# Altium footprint library mcu-chip.PcbLib: 82 footprints (part 5 of 6)
Each footprint in its own frame and in the unit in brackets; x right, y up, seen from the top. Pads: shape width x height; smd on the part's side, far side on the other; paste and mask are expansions set on the pad; w line width, h text height; cw(c..) or ccw(c..) is an arc to the next point about the centre after c.
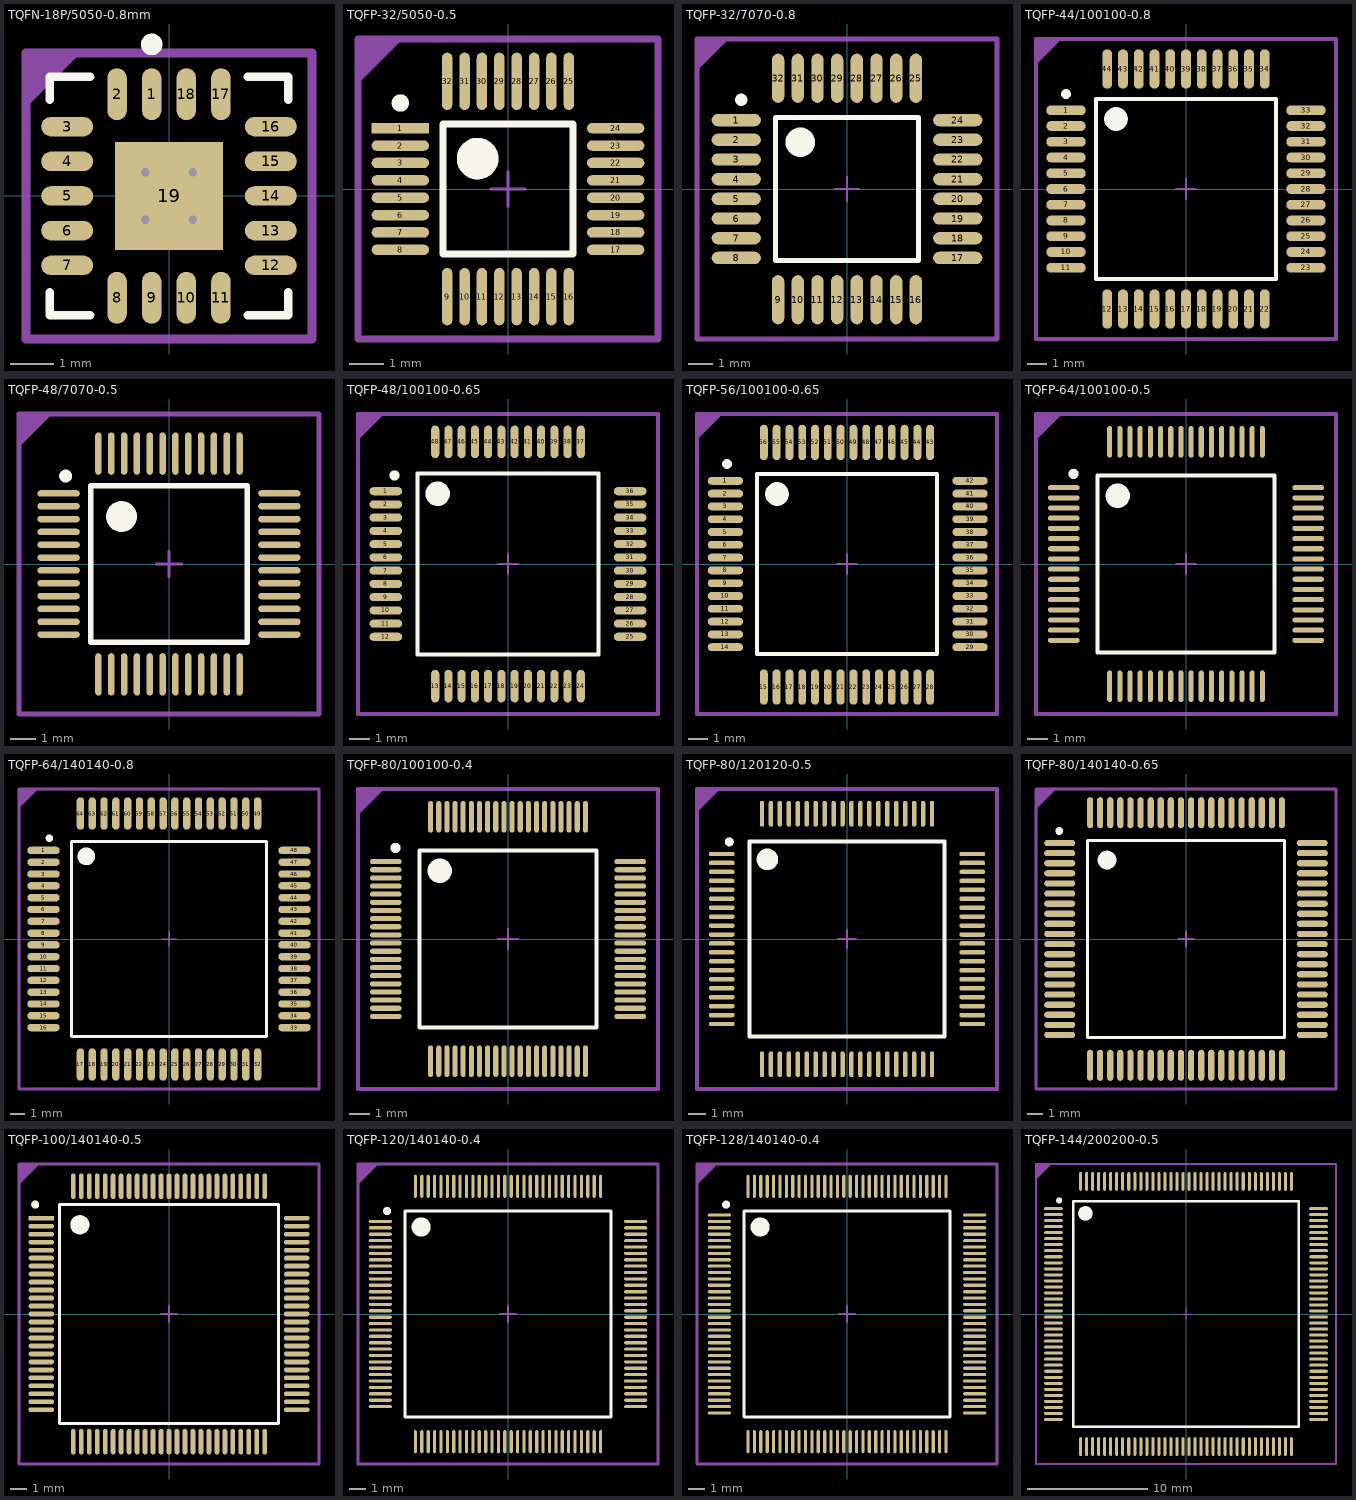
[diagram p4: the footprints below, top view; thin cyan lines are the x and y axes]

## TQFN-18P/5050-0.8mm [mm] "QFN, 18-Leads, Body 5,00x5,00mm, Pitch 0,80mm, Thermal Pad 2,50x2,50mm, IPC Medium Density"
height 0.9
pads (19):
  oval 0.45x1.2 smd: 1(-0.4,2.35) 2(-1.2,2.35) 8(-1.2,-2.35) 9(-0.4,-2.35) 10(0.4,-2.35) 11(1.2,-2.35) 17(1.2,2.35) 18(0.4,2.35)
  oval 1.2x0.45 smd: 3(-2.35,1.6) 4(-2.35,0.8) 5(-2.35,0) 6(-2.35,-0.8) 7(-2.35,-1.6) 12(2.35,-1.6) 13(2.35,-0.8) 14(2.35,0) 15(2.35,0.8) 16(2.35,1.6)
  rect 2.5x2.5 smd: 19(0,0)
via 0.55,-0.55 diameter 0.5 hole 0.2
via -0.55,-0.55 diameter 0.5 hole 0.2
via 0.55,0.55 diameter 0.5 hole 0.2
via -0.55,0.55 diameter 0.5 hole 0.2
Top Overlay:
  circle w0.25: c-0.4,3.5 r0.125
  lines w0.2: -2.75,-2.225 -2.75,-2.75 -1.825,-2.75 ; -2.75,2.225 -2.75,2.75 -1.825,2.75 ; 1.825,-2.75 2.75,-2.75 2.75,-2.225 ; 1.825,2.75 2.75,2.75 2.75,2.225
Mechanical 13:
  region: -3.302,3.302 -3.302,2.032 -2.032,3.302
  lines w0.2: -3.302,-3.302 3.302,-3.302 3.302,3.302 -3.302,3.302 -3.302,-3.302
  text ".Designator" at -2.34,-0.64 h1.4
Mechanical 15:
  lines w0.05: -3.302,-3.302 3.302,-3.302 3.302,3.302 -3.302,3.302 -3.302,-3.302
  lines w0.1: -0.5,0 0.5,0 ; 0,-0.5 0,0.5
3D body: height 0.9, standoff 0.1, extent -2.6,-2.6 2.6,2.6

## TQFP-32/5050-0.5 [mm] "TSQFP, 32-Leads, Body 5,20x5,20mm, Pitch 0,50mm, IPC Medium Density"
height 1
pads (32):
  rect 1.65x0.3 smd: 1(-3.1,1.75)
  oval 1.65x0.3 smd: 2(-3.1,1.25) 3(-3.1,0.75) 4(-3.1,0.25) 5(-3.1,-0.25) 6(-3.1,-0.75) 7(-3.1,-1.25) 8(-3.1,-1.75) 17(3.1,-1.75) 18(3.1,-1.25) 19(3.1,-0.75) 20(3.1,-0.25) 21(3.1,0.25) 22(3.1,0.75) 23(3.1,1.25) 24(3.1,1.75)
  oval 0.3x1.65 smd: 9(-1.75,-3.1) 10(-1.25,-3.1) 11(-0.75,-3.1) 12(-0.25,-3.1) 13(0.25,-3.1) 14(0.75,-3.1) 15(1.25,-3.1) 16(1.75,-3.1) 25(1.75,3.1) 26(1.25,3.1) 27(0.75,3.1) 28(0.25,3.1) 29(-0.25,3.1) 30(-0.75,3.1) 31(-1.25,3.1) 32(-1.75,3.1)
Top Overlay:
  circle w0.6: c-0.875,0.875 r0.3
  circle w0.25: c-3.1,2.475 r0.125
  lines w0.2: -1.875,-1.875 1.875,-1.875 1.875,1.875 -1.875,1.875 -1.875,-1.875
Mechanical 13:
  region: -4.318,4.318 -4.318,3.048 -3.048,4.318
  lines w0.2: -4.318,-4.318 4.318,-4.318 4.318,4.318 -4.318,4.318 -4.318,-4.318
  text ".Designator" at -2.34,-0.68 h1.4
Mechanical 15:
  lines w0.05: -4.318,-4.318 4.318,-4.318 4.318,4.318 -4.318,4.318 -4.318,-4.318
  lines w0.1: -0.5,0 0.5,0 ; 0,-0.5 0,0.5
3D body: height 1, standoff 0.1, extent -2.6,-2.6 2.6,2.6

## TQFP-32/7070-0.8 [mm] "TQFP, 32-Leads, Body 7,00x7,00mm, Pitch 0,80mm, IPC Medium Density"
height 1
pads (32):
  oval 2x0.5 smd: 1(-4.5,2.8) 2(-4.5,2) 3(-4.5,1.2) 4(-4.5,0.4) 5(-4.5,-0.4) 6(-4.5,-1.2) 7(-4.5,-2) 8(-4.5,-2.8) 17(4.5,-2.8) 18(4.5,-2) 19(4.5,-1.2) 20(4.5,-0.4) 21(4.5,0.4) 22(4.5,1.2) 23(4.5,2) 24(4.5,2.8)
  oval 0.5x2 smd: 9(-2.8,-4.5) 10(-2,-4.5) 11(-1.2,-4.5) 12(-0.4,-4.5) 13(0.4,-4.5) 14(1.2,-4.5) 15(2,-4.5) 16(2.8,-4.5) 25(2.8,4.5) 26(2,4.5) 27(1.2,4.5) 28(0.4,4.5) 29(-0.4,4.5) 30(-1.2,4.5) 31(-2,4.5) 32(-2.8,4.5)
Top Overlay:
  circle w0.6: c-1.9,1.9 r0.3
  circle w0.25: c-4.3,3.625 r0.125
  lines w0.2: -2.9,-2.9 2.9,-2.9 2.9,2.9 -2.9,2.9 -2.9,-2.9
Mechanical 13:
  region: -6.096,6.096 -6.096,4.826 -4.826,6.096
  lines w0.2: -6.096,-6.096 6.096,-6.096 6.096,6.096 -6.096,6.096 -6.096,-6.096
  text ".Designator" at -3.33,-0.85 h2
Mechanical 15:
  lines w0.05: -6.096,-6.096 6.096,-6.096 6.096,6.096 -6.096,6.096 -6.096,-6.096
  lines w0.1: -0.5,0 0.5,0 ; 0,-0.5 0,0.5
3D body: height 1, standoff 0.1, extent -3.5,-3.5 3.5,3.5

## TQFP-44/100100-0.8 [mm] "TQFP, 44-Leads, Body 10,50x10,50mm, Pitch 0,80mm, IPC Medium Density"
height 1
pads (44):
  oval 2x0.5 smd: 1(-6.096,4) 2(-6.096,3.2) 3(-6.096,2.4) 4(-6.096,1.6) 5(-6.096,0.8) 6(-6.096,0) 7(-6.096,-0.8) 8(-6.096,-1.6) 9(-6.096,-2.4) 10(-6.096,-3.2) 11(-6.096,-4) 23(6.096,-4) 24(6.096,-3.2) 25(6.096,-2.4) 26(6.096,-1.6) 27(6.096,-0.8) 28(6.096,0) 29(6.096,0.8) 30(6.096,1.6) 31(6.096,2.4) 32(6.096,3.2) 33(6.096,4)
  oval 0.5x2 smd: 12(-4,-6.096) 13(-3.2,-6.096) 14(-2.4,-6.096) 15(-1.6,-6.096) 16(-0.8,-6.096) 17(0,-6.096) 18(0.8,-6.096) 19(1.6,-6.096) 20(2.4,-6.096) 21(3.2,-6.096) 22(4,-6.096) 34(4,6.096) 35(3.2,6.096) 36(2.4,6.096) 37(1.6,6.096) 38(0.8,6.096) 39(0,6.096) 40(-0.8,6.096) 41(-1.6,6.096) 42(-2.4,6.096) 43(-3.2,6.096) 44(-4,6.096)
Top Overlay:
  circle w0.6: c-3.556,3.556 r0.3
  lines w0.2: -4.572,-4.572 -4.572,4.572 4.572,4.572 4.572,-4.572 -4.572,-4.572
  lines w0.25: -5.971,4.826 cw(c-6.096,4.826) -5.971,4.832
Mechanical 13:
  region: -7.62,7.62 -7.62,6.35 -6.35,7.62
  lines w0.2: -7.62,-7.62 -7.62,7.62 7.62,7.62 7.62,-7.62 -7.62,-7.62
  text ".Designator" at -3.37,-0.9 h2
Mechanical 15:
  lines w0.05: -7.62,-7.62 -7.62,7.62 7.62,7.62 7.62,-7.62 -7.62,-7.62
  lines w0.1: -0.5,0 0.5,0 ; 0,-0.5 0,0.5
3D body: height 1, standoff 0.1, extent -5.08,-5.08 5.08,5.08

## TQFP-48/7070-0.5 [mm] "TSQFP, 48-Leads, Body 7,00x7,00mm, Pitch 0,50mm, IPC High Density"
height 1
pads (48):
  oval 1.65x0.25 smd: 1(-4.3,2.75) 2(-4.3,2.25) 3(-4.3,1.75) 4(-4.3,1.25) 5(-4.3,0.75) 6(-4.3,0.25) 7(-4.3,-0.25) 8(-4.3,-0.75) 9(-4.3,-1.25) 10(-4.3,-1.75) 11(-4.3,-2.25) 12(-4.3,-2.75) 25(4.3,-2.75) 26(4.3,-2.25) 27(4.3,-1.75) 28(4.3,-1.25) 29(4.3,-0.75) 30(4.3,-0.25) 31(4.3,0.25) 32(4.3,0.75) 33(4.3,1.25) 34(4.3,1.75) 35(4.3,2.25) 36(4.3,2.75)
  oval 0.25x1.65 smd: 13(-2.75,-4.3) 14(-2.25,-4.3) 15(-1.75,-4.3) 16(-1.25,-4.3) 17(-0.75,-4.3) 18(-0.25,-4.3) 19(0.25,-4.3) 20(0.75,-4.3) 21(1.25,-4.3) 22(1.75,-4.3) 23(2.25,-4.3) 24(2.75,-4.3) 37(2.75,4.3) 38(2.25,4.3) 39(1.75,4.3) 40(1.25,4.3) 41(0.75,4.3) 42(0.25,4.3) 43(-0.25,4.3) 44(-0.75,4.3) 45(-1.25,4.3) 46(-1.75,4.3) 47(-2.25,4.3) 48(-2.75,4.3)
Top Overlay:
  circle w0.6: c-1.85,1.85 r0.3
  circle w0.25: c-4.025,3.425 r0.125
  lines w0.2: -3.048,-3.048 3.048,-3.048 3.048,3.048 -3.048,3.048 -3.048,-3.048
Mechanical 13:
  region: -5.842,5.842 -5.842,4.572 -4.572,5.842
  lines w0.2: -5.842,-5.842 5.842,-5.842 5.842,5.842 -5.842,5.842 -5.842,-5.842
  text ".Designator" at -3.34,-0.93 h2
Mechanical 15:
  lines w0.05: -5.842,-5.842 5.842,-5.842 5.842,5.842 -5.842,5.842 -5.842,-5.842
  lines w0.1: -0.5,0 0.5,0 ; 0,-0.5 0,0.5
3D body: height 1, standoff 0.1, extent -3.5,-3.5 3.5,3.5

## TQFP-48/100100-0.65 [mm] "TQFP, 48-Leads, Body 10,00x10,00mm, Pitch 0,65mm, IPC High Density"
height 1
pads (48):
  oval 1.6x0.4 smd: 1(-6,3.575) 2(-6,2.925) 3(-6,2.275) 4(-6,1.625) 5(-6,0.975) 6(-6,0.325) 7(-6,-0.325) 8(-6,-0.975) 9(-6,-1.625) 10(-6,-2.275) 11(-6,-2.925) 12(-6,-3.575) 25(6,-3.575) 26(6,-2.925) 27(6,-2.275) 28(6,-1.625) 29(6,-0.975) 30(6,-0.325) 31(6,0.325) 32(6,0.975) 33(6,1.625) 34(6,2.275) 35(6,2.925) 36(6,3.575)
  oval 0.4x1.6 smd: 13(-3.575,-6) 14(-2.925,-6) 15(-2.275,-6) 16(-1.625,-6) 17(-0.975,-6) 18(-0.325,-6) 19(0.325,-6) 20(0.975,-6) 21(1.625,-6) 22(2.275,-6) 23(2.925,-6) 24(3.575,-6) 37(3.575,6) 38(2.925,6) 39(2.275,6) 40(1.625,6) 41(0.975,6) 42(0.325,6) 43(-0.325,6) 44(-0.975,6) 45(-1.625,6) 46(-2.275,6) 47(-2.925,6) 48(-3.575,6)
Top Overlay:
  circle w0.25: c-5.575,4.35 r0.125
  circle w0.6: c-3.45,3.45 r0.3
  lines w0.2: -4.45,-4.45 -4.45,4.45 4.45,4.45 4.45,-4.45 -4.45,-4.45
Mechanical 13:
  region: -7.366,7.366 -7.366,6.096 -6.096,7.366
  lines w0.2: -7.366,-7.366 -7.366,7.366 7.366,7.366 7.366,-7.366 -7.366,-7.366
  text ".Designator" at -3.37,-0.85 h2
Mechanical 15:
  lines w0.05: -7.366,-7.366 -7.366,7.366 7.366,7.366 7.366,-7.366 -7.366,-7.366
  lines w0.1: -0.5,0 0.5,0 ; 0,-0.5 0,0.5
3D body: height 1, standoff 0.1, extent -5,-5 5,5

## TQFP-56/100100-0.65 [mm] "TQFP, 56-Leads, Body 10,50x10,50mm, Pitch 0,65mm, IPC Medium Density"
height 1
pads (56):
  oval 1.8x0.4 smd: 1(-6.175,4.225) 2(-6.175,3.575) 3(-6.175,2.925) 4(-6.175,2.275) 5(-6.175,1.625) 6(-6.175,0.975) 7(-6.175,0.325) 8(-6.175,-0.325) 9(-6.175,-0.975) 10(-6.175,-1.625) 11(-6.175,-2.275) 12(-6.175,-2.925) 13(-6.175,-3.575) 14(-6.175,-4.225) 29(6.25,-4.225) 30(6.25,-3.575) 31(6.25,-2.925) 32(6.25,-2.275) 33(6.25,-1.625) 34(6.25,-0.975) 35(6.25,-0.325) 36(6.25,0.325) 37(6.25,0.975) 38(6.25,1.625) 39(6.25,2.275) 40(6.25,2.925) 41(6.25,3.575) 42(6.25,4.225)
  oval 0.4x1.8 smd: 15(-4.225,-6.25) 16(-3.575,-6.25) 17(-2.925,-6.25) 18(-2.275,-6.25) 19(-1.625,-6.25) 20(-0.975,-6.25) 21(-0.325,-6.25) 22(0.325,-6.25) 23(0.975,-6.25) 24(1.625,-6.25) 25(2.275,-6.25) 26(2.925,-6.25) 27(3.575,-6.25) 28(4.225,-6.25) 43(4.225,6.175) 44(3.575,6.175) 45(2.925,6.175) 46(2.275,6.175) 47(1.625,6.175) 48(0.975,6.175) 49(0.325,6.175) 50(-0.325,6.175) 51(-0.975,6.175) 52(-1.625,6.175) 53(-2.275,6.175) 54(-2.925,6.175) 55(-3.575,6.175) 56(-4.225,6.175)
Top Overlay:
  circle w0.25: c-6.096,5.08 r0.125
  circle w0.6: c-3.556,3.556 r0.3
  lines w0.2: -4.572,-4.572 -4.572,4.572 4.572,4.572 4.572,-4.572 -4.572,-4.572
Mechanical 13:
  region: -7.62,7.62 -7.62,6.35 -6.35,7.62
  lines w0.2: -7.62,-7.62 -7.62,7.62 7.62,7.62 7.62,-7.62 -7.62,-7.62
  text ".Designator" at -3.38,-0.98 h2
Mechanical 15:
  lines w0.05: -7.62,-7.62 -7.62,7.62 7.62,7.62 7.62,-7.62 -7.62,-7.62
  lines w0.1: -0.5,0 0.5,0 ; 0,-0.5 0,0.5
3D body: height 1, standoff 0.1, extent -5.25,-5.25 5.25,5.25

## TQFP-64/100100-0.5 [mm] "TSQFP, 64-Leads, Body 10,00x10,00mm, Pitch 0,50mm, IPC High Density"
height 1
pads (64):
  oval 1.55x0.25 smd: 1(-6,3.75) 2(-6,3.25) 3(-6,2.75) 4(-6,2.25) 5(-6,1.75) 6(-6,1.25) 7(-6,0.75) 8(-6,0.25) 9(-6,-0.25) 10(-6,-0.75) 11(-6,-1.25) 12(-6,-1.75) 13(-6,-2.25) 14(-6,-2.75) 15(-6,-3.25) 16(-6,-3.75) 33(6,-3.75) 34(6,-3.25) 35(6,-2.75) 36(6,-2.25) 37(6,-1.75) 38(6,-1.25) 39(6,-0.75) 40(6,-0.25) 41(6,0.25) 42(6,0.75) 43(6,1.25) 44(6,1.75) 45(6,2.25) 46(6,2.75) 47(6,3.25) 48(6,3.75)
  oval 0.25x1.55 smd: 17(-3.75,-6) 18(-3.25,-6) 19(-2.75,-6) 20(-2.25,-6) 21(-1.75,-6) 22(-1.25,-6) 23(-0.75,-6) 24(-0.25,-6) 25(0.25,-6) 26(0.75,-6) 27(1.25,-6) 28(1.75,-6) 29(2.25,-6) 30(2.75,-6) 31(3.25,-6) 32(3.75,-6) 49(3.75,6) 50(3.25,6) 51(2.75,6) 52(2.25,6) 53(1.75,6) 54(1.25,6) 55(0.75,6) 56(0.25,6) 57(-0.25,6) 58(-0.75,6) 59(-1.25,6) 60(-1.75,6) 61(-2.25,6) 62(-2.75,6) 63(-3.25,6) 64(-3.75,6)
Top Overlay:
  circle w0.6: c-3.35,3.35 r0.3
  circle w0.25: c-5.525,4.425 r0.125
  lines w0.2: -4.35,-4.35 4.35,-4.35 4.35,4.35 -4.35,4.35 -4.35,-4.35
Mechanical 13:
  region: -7.366,7.366 -7.366,6.096 -6.096,7.366
  lines w0.2: -7.366,-7.366 7.366,-7.366 7.366,7.366 -7.366,7.366 -7.366,-7.366
  text ".Designator" at -3.33,-0.98 h2
Mechanical 15:
  lines w0.05: -7.366,-7.366 7.366,-7.366 7.366,7.366 -7.366,7.366 -7.366,-7.366
  lines w0.1: -0.5,0 0.5,0 ; 0,-0.5 0,0.5
3D body: height 1, standoff 0.1, extent -5,-5 5,5

## TQFP-64/140140-0.8 [mm] "TQFP, 64-Leads, Body 14,05x14,05mm, Pitch 0,80mm, IPC Medium Density"
height 1
pads (64):
  oval 2.2x0.5 smd: 1(-8.5,6) 2(-8.5,5.2) 3(-8.5,4.4) 4(-8.5,3.6) 5(-8.5,2.8) 6(-8.5,2) 7(-8.5,1.2) 8(-8.5,0.4) 9(-8.5,-0.4) 10(-8.5,-1.2) 11(-8.5,-2) 12(-8.5,-2.8) 13(-8.5,-3.6) 14(-8.5,-4.4) 15(-8.5,-5.2) 16(-8.5,-6) 33(8.5,-6) 34(8.5,-5.2) 35(8.5,-4.4) 36(8.5,-3.6) 37(8.5,-2.8) 38(8.5,-2) 39(8.5,-1.2) 40(8.5,-0.4) 41(8.5,0.4) 42(8.5,1.2) 43(8.5,2) 44(8.5,2.8) 45(8.5,3.6) 46(8.5,4.4) 47(8.5,5.2) 48(8.5,6)
  oval 0.5x2.2 smd: 17(-6,-8.5) 18(-5.2,-8.5) 19(-4.4,-8.5) 20(-3.6,-8.5) 21(-2.8,-8.5) 22(-2,-8.5) 23(-1.2,-8.5) 24(-0.4,-8.5) 25(0.4,-8.5) 26(1.2,-8.5) 27(2,-8.5) 28(2.8,-8.5) 29(3.6,-8.5) 30(4.4,-8.5) 31(5.2,-8.5) 32(6,-8.5) 49(6,8.5) 50(5.2,8.5) 51(4.4,8.5) 52(3.6,8.5) 53(2.8,8.5) 54(2,8.5) 55(1.2,8.5) 56(0.4,8.5) 57(-0.4,8.5) 58(-1.2,8.5) 59(-2,8.5) 60(-2.8,8.5) 61(-3.6,8.5) 62(-4.4,8.5) 63(-5.2,8.5) 64(-6,8.5)
Top Overlay:
  circle w0.6: c-5.6,5.6 r0.3
  circle w0.25: c-8.1,6.825 r0.125
  lines w0.2: -6.6,-6.6 6.6,-6.6 6.6,6.6 -6.6,6.6 -6.6,-6.6
Mechanical 13:
  region: -10.16,10.16 -10.16,8.89 -8.89,10.16
  lines w0.2: -10.16,-10.16 10.16,-10.16 10.16,10.16 -10.16,10.16 -10.16,-10.16
  text ".Designator" at -3.33,-0.96 h2
Mechanical 15:
  lines w0.05: -10.16,-10.16 10.16,-10.16 10.16,10.16 -10.16,10.16 -10.16,-10.16
  lines w0.1: -0.5,0 0.5,0 ; 0,-0.5 0,0.5
3D body: height 1, standoff 0.1, extent -7.05,-7.05 7.05,7.05

## TQFP-80/100100-0.4 [mm] "TSQFP, 80-Leads, Body 10,00x10,00mm, Pitch 0,40mm, IPC High Density"
height 1
pads (80):
  oval 1.55x0.25 smd: 1(-6,3.8) 2(-6,3.4) 3(-6,3) 4(-6,2.6) 5(-6,2.2) 6(-6,1.8) 7(-6,1.4) 8(-6,1) 9(-6,0.6) 10(-6,0.2) 11(-6,-0.2) 12(-6,-0.6) 13(-6,-1) 14(-6,-1.4) 15(-6,-1.8) 16(-6,-2.2) 17(-6,-2.6) 18(-6,-3) 19(-6,-3.4) 20(-6,-3.8) 41(6,-3.8) 42(6,-3.4) 43(6,-3) 44(6,-2.6) 45(6,-2.2) 46(6,-1.8) 47(6,-1.4) 48(6,-1) 49(6,-0.6) 50(6,-0.2) 51(6,0.2) 52(6,0.6) 53(6,1) 54(6,1.4) 55(6,1.8) 56(6,2.2) 57(6,2.6) 58(6,3) 59(6,3.4) 60(6,3.8)
  oval 0.25x1.55 smd: 21(-3.8,-6) 22(-3.4,-6) 23(-3,-6) 24(-2.6,-6) 25(-2.2,-6) 26(-1.8,-6) 27(-1.4,-6) 28(-1,-6) 29(-0.6,-6) 30(-0.2,-6) 31(0.2,-6) 32(0.6,-6) 33(1,-6) 34(1.4,-6) 35(1.8,-6) 36(2.2,-6) 37(2.6,-6) 38(3,-6) 39(3.4,-6) 40(3.8,-6) 61(3.8,6) 62(3.4,6) 63(3,6) 64(2.6,6) 65(2.2,6) 66(1.8,6) 67(1.4,6) 68(1,6) 69(0.6,6) 70(0.2,6) 71(-0.2,6) 72(-0.6,6) 73(-1,6) 74(-1.4,6) 75(-1.8,6) 76(-2.2,6) 77(-2.6,6) 78(-3,6) 79(-3.4,6) 80(-3.8,6)
Top Overlay:
  circle w0.25: c-5.525,4.475 r0.125
  circle w0.6: c-3.35,3.35 r0.3
  lines w0.2: -4.35,-4.35 -4.35,4.35 4.35,4.35 4.35,-4.35 -4.35,-4.35
Mechanical 13:
  region: -7.366,7.366 -7.366,6.096 -6.096,7.366
  lines w0.2: -7.366,-7.366 -7.366,7.366 7.366,7.366 7.366,-7.366 -7.366,-7.366
  text ".Designator" at -3.37,-1.02 h2
Mechanical 15:
  lines w0.05: -7.366,-7.366 -7.366,7.366 7.366,7.366 7.366,-7.366 -7.366,-7.366
  lines w0.1: -0.5,0 0.5,0 ; 0,-0.5 0,0.5
3D body: height 1, standoff 0.1, extent -5,-5 5,5

## TQFP-80/120120-0.5 [mm] "TSQFP, 80-Leads, Body 12,00x12,00mm, Pitch 0,50mm, IPC High Density"
height 1
pads (80):
  oval 1.45x0.25 smd: 1(-7,4.75) 2(-7,4.25) 3(-7,3.75) 4(-7,3.25) 5(-7,2.75) 6(-7,2.25) 7(-7,1.75) 8(-7,1.25) 9(-7,0.75) 10(-7,0.25) 11(-7,-0.25) 12(-7,-0.75) 13(-7,-1.25) 14(-7,-1.75) 15(-7,-2.25) 16(-7,-2.75) 17(-7,-3.25) 18(-7,-3.75) 19(-7,-4.25) 20(-7,-4.75) 41(7,-4.75) 42(7,-4.25) 43(7,-3.75) 44(7,-3.25) 45(7,-2.75) 46(7,-2.25) 47(7,-1.75) 48(7,-1.25) 49(7,-0.75) 50(7,-0.25) 51(7,0.25) 52(7,0.75) 53(7,1.25) 54(7,1.75) 55(7,2.25) 56(7,2.75) 57(7,3.25) 58(7,3.75) 59(7,4.25) 60(7,4.75)
  oval 0.25x1.45 smd: 21(-4.75,-7) 22(-4.25,-7) 23(-3.75,-7) 24(-3.25,-7) 25(-2.75,-7) 26(-2.25,-7) 27(-1.75,-7) 28(-1.25,-7) 29(-0.75,-7) 30(-0.25,-7) 31(0.25,-7) 32(0.75,-7) 33(1.25,-7) 34(1.75,-7) 35(2.25,-7) 36(2.75,-7) 37(3.25,-7) 38(3.75,-7) 39(4.25,-7) 40(4.75,-7) 61(4.75,7) 62(4.25,7) 63(3.75,7) 64(3.25,7) 65(2.75,7) 66(2.25,7) 67(1.75,7) 68(1.25,7) 69(0.75,7) 70(0.25,7) 71(-0.25,7) 72(-0.75,7) 73(-1.25,7) 74(-1.75,7) 75(-2.25,7) 76(-2.75,7) 77(-3.25,7) 78(-3.75,7) 79(-4.25,7) 80(-4.75,7)
Top Overlay:
  circle w0.6: c-4.45,4.45 r0.3
  circle w0.25: c-6.575,5.425 r0.125
  lines w0.2: -5.45,-5.45 5.45,-5.45 5.45,5.45 -5.45,5.45 -5.45,-5.45
Mechanical 13:
  region: -8.382,8.382 -8.382,7.112 -7.112,8.382
  lines w0.2: -8.382,-8.382 8.382,-8.382 8.382,8.382 -8.382,8.382 -8.382,-8.382
  text ".Designator" at -3.33,-0.98 h2
Mechanical 15:
  lines w0.05: -8.382,-8.382 8.382,-8.382 8.382,8.382 -8.382,8.382 -8.382,-8.382
  lines w0.1: -0.5,0 0.5,0 ; 0,-0.5 0,0.5
3D body: height 1, standoff 0.1, extent -6,-6 6,6

## TQFP-80/140140-0.65 [mm] "TQFP, 80-Leads, Body 14,05x14,05mm, Pitch 0,65mm, IPC Medium Density"
height 1
pads (80):
  oval 2x0.4 smd: 1(-8.125,6.175) 2(-8.125,5.525) 3(-8.125,4.875) 4(-8.125,4.225) 5(-8.125,3.575) 6(-8.125,2.925) 7(-8.125,2.275) 8(-8.125,1.625) 9(-8.125,0.975) 10(-8.125,0.325) 11(-8.125,-0.325) 12(-8.125,-0.975) 13(-8.125,-1.625) 14(-8.125,-2.275) 15(-8.125,-2.925) 16(-8.125,-3.575) 17(-8.125,-4.225) 18(-8.125,-4.875) 19(-8.125,-5.525) 20(-8.125,-6.175) 41(8.125,-6.175) 42(8.125,-5.525) 43(8.125,-4.875) 44(8.125,-4.225) 45(8.125,-3.575) 46(8.125,-2.925) 47(8.125,-2.275) 48(8.125,-1.625) 49(8.125,-0.975) 50(8.125,-0.325) 51(8.125,0.325) 52(8.125,0.975) 53(8.125,1.625) 54(8.125,2.275) 55(8.125,2.925) 56(8.125,3.575) 57(8.125,4.225) 58(8.125,4.875) 59(8.125,5.525) 60(8.125,6.175)
  oval 0.4x2 smd: 21(-6.175,-8.125) 22(-5.525,-8.125) 23(-4.875,-8.125) 24(-4.225,-8.125) 25(-3.575,-8.125) 26(-2.925,-8.125) 27(-2.275,-8.125) 28(-1.625,-8.125) 29(-0.975,-8.125) 30(-0.325,-8.125) 31(0.325,-8.125) 32(0.975,-8.125) 33(1.625,-8.125) 34(2.275,-8.125) 35(2.925,-8.125) 36(3.575,-8.125) 37(4.225,-8.125) 38(4.875,-8.125) 39(5.525,-8.125) 40(6.175,-8.125) 61(6.175,8.125) 62(5.525,8.125) 63(4.875,8.125) 64(4.225,8.125) 65(3.575,8.125) 66(2.925,8.125) 67(2.275,8.125) 68(1.625,8.125) 69(0.975,8.125) 70(0.325,8.125) 71(-0.325,8.125) 72(-0.975,8.125) 73(-1.625,8.125) 74(-2.275,8.125) 75(-2.925,8.125) 76(-3.575,8.125) 77(-4.225,8.125) 78(-4.875,8.125) 79(-5.525,8.125) 80(-6.175,8.125)
Top Overlay:
  circle w0.6: c-5.08,5.08 r0.3
  circle w0.25: c-8.15,6.95 r0.125
  lines w0.2: -6.35,-6.35 6.35,-6.35 6.35,6.35 -6.35,6.35 -6.35,-6.35
Mechanical 13:
  region: -9.652,9.652 -9.652,8.382 -8.382,9.652
  lines w0.2: -9.652,-9.652 9.652,-9.652 9.652,9.652 -9.652,9.652 -9.652,-9.652
  text ".Designator" at -3.35,-0.9 h2
Mechanical 15:
  lines w0.05: -9.652,-9.652 9.652,-9.652 9.652,9.652 -9.652,9.652 -9.652,-9.652
  lines w0.1: -0.5,0 0.5,0 ; 0,-0.5 0,0.5
3D body: height 1, standoff 0.1, extent -7.05,-7.05 7.05,7.05

## TQFP-100/140140-0.5 [mm] "TSQFP, 100-Leads, Body 14,00x14,00mm, Pitch 0,50mm, IPC High Density"
height 1
pads (100):
  rect 1.6x0.3 smd: 1(-8,6)
  oval 1.6x0.3 smd: 2(-8,5.5) 3(-8,5) 4(-8,4.5) 5(-8,4) 6(-8,3.5) 7(-8,3) 8(-8,2.5) 9(-8,2) 10(-8,1.5) 11(-8,1) 12(-8,0.5) 13(-8,0) 14(-8,-0.5) 15(-8,-1) 16(-8,-1.5) 17(-8,-2) 18(-8,-2.5) 19(-8,-3) 20(-8,-3.5) 21(-8,-4) 22(-8,-4.5) 23(-8,-5) 24(-8,-5.5) 25(-8,-6) 51(8,-6) 52(8,-5.5) 53(8,-5) 54(8,-4.5) 55(8,-4) 56(8,-3.5) 57(8,-3) 58(8,-2.5) 59(8,-2) 60(8,-1.5) 61(8,-1) 62(8,-0.5) 63(8,0) 64(8,0.5) 65(8,1) 66(8,1.5) 67(8,2) 68(8,2.5) 69(8,3) 70(8,3.5) 71(8,4) 72(8,4.5) 73(8,5) 74(8,5.5) 75(8,6)
  oval 0.3x1.6 smd: 26(-6,-8) 27(-5.5,-8) 28(-5,-8) 29(-4.5,-8) 30(-4,-8) 31(-3.5,-8) 32(-3,-8) 33(-2.5,-8) 34(-2,-8) 35(-1.5,-8) 36(-1,-8) 37(-0.5,-8) 38(0,-8) 39(0.5,-8) 40(1,-8) 41(1.5,-8) 42(2,-8) 43(2.5,-8) 44(3,-8) 45(3.5,-8) 46(4,-8) 47(4.5,-8) 48(5,-8) 49(5.5,-8) 50(6,-8) 76(6,8) 77(5.5,8) 78(5,8) 79(4.5,8) 80(4,8) 81(3.5,8) 82(3,8) 83(2.5,8) 84(2,8) 85(1.5,8) 86(1,8) 87(0.5,8) 88(0,8) 89(-0.5,8) 90(-1,8) 91(-1.5,8) 92(-2,8) 93(-2.5,8) 94(-3,8) 95(-3.5,8) 96(-4,8) 97(-4.5,8) 98(-5,8) 99(-5.5,8) 100(-6,8)
Top Overlay:
  circle w0.25: c-8.382,6.858 r0.125
  circle w0.6: c-5.588,5.588 r0.3
  lines w0.2: -6.858,-6.858 -6.858,6.858 6.858,6.858 6.858,-6.858 -6.858,-6.858
Mechanical 13:
  region: -9.398,9.398 -9.398,8.128 -8.128,9.398
  lines w0.2: -9.398,-9.398 -9.398,9.398 9.398,9.398 9.398,-9.398 -9.398,-9.398
  text ".Designator" at -3.31,-0.97 h2
Mechanical 15:
  lines w0.05: -9.398,-9.398 9.398,-9.398 9.398,9.398 -9.398,9.398 -9.398,-9.398
  lines w0.1: -0.5,0 0.5,0 ; 0,-0.5 0,0.5
3D body: height 1, standoff 0.1, extent -7,-7 7,7

## TQFP-120/140140-0.4 [mm] "TSQFP, 120-Leads, Body 14,00x14,00mm, Pitch 0,40mm, IPC High Density"
height 1
pads (120):
  oval 1.45x0.2 smd: 1(-8,5.8) 2(-8,5.4) 3(-8,5) 4(-8,4.6) 5(-8,4.2) 6(-8,3.8) 7(-8,3.4) 8(-8,3) 9(-8,2.6) 10(-8,2.2) 11(-8,1.8) 12(-8,1.4) 13(-8,1) 14(-8,0.6) 15(-8,0.2) 16(-8,-0.2) 17(-8,-0.6) 18(-8,-1) 19(-8,-1.4) 20(-8,-1.8) 21(-8,-2.2) 22(-8,-2.6) 23(-8,-3) 24(-8,-3.4) 25(-8,-3.8) 26(-8,-4.2) 27(-8,-4.6) 28(-8,-5) 29(-8,-5.4) 30(-8,-5.8) 61(8,-5.8) 62(8,-5.4) 63(8,-5) 64(8,-4.6) 65(8,-4.2) 66(8,-3.8) 67(8,-3.4) 68(8,-3) 69(8,-2.6) 70(8,-2.2) 71(8,-1.8) 72(8,-1.4) 73(8,-1) 74(8,-0.6) 75(8,-0.2) 76(8,0.2) 77(8,0.6) 78(8,1) 79(8,1.4) 80(8,1.8) 81(8,2.2) 82(8,2.6) 83(8,3) 84(8,3.4) 85(8,3.8) 86(8,4.2) 87(8,4.6) 88(8,5) 89(8,5.4) 90(8,5.8)
  oval 0.2x1.45 smd: 31(-5.8,-8) 32(-5.4,-8) 33(-5,-8) 34(-4.6,-8) 35(-4.2,-8) 36(-3.8,-8) 37(-3.4,-8) 38(-3,-8) 39(-2.6,-8) 40(-2.2,-8) 41(-1.8,-8) 42(-1.4,-8) 43(-1,-8) 44(-0.6,-8) 45(-0.2,-8) 46(0.2,-8) 47(0.6,-8) 48(1,-8) 49(1.4,-8) 50(1.8,-8) 51(2.2,-8) 52(2.6,-8) 53(3,-8) 54(3.4,-8) 55(3.8,-8) 56(4.2,-8) 57(4.6,-8) 58(5,-8) 59(5.4,-8) 60(5.8,-8) 91(5.8,8) 92(5.4,8) 93(5,8) 94(4.6,8) 95(4.2,8) 96(3.8,8) 97(3.4,8) 98(3,8) 99(2.6,8) 100(2.2,8) 101(1.8,8) 102(1.4,8) 103(1,8) 104(0.6,8) 105(0.2,8) 106(-0.2,8) 107(-0.6,8) 108(-1,8) 109(-1.4,8) 110(-1.8,8) 111(-2.2,8) 112(-2.6,8) 113(-3,8) 114(-3.4,8) 115(-3.8,8) 116(-4.2,8) 117(-4.6,8) 118(-5,8) 119(-5.4,8) 120(-5.8,8)
Top Overlay:
  circle w0.6: c-5.45,5.45 r0.3
  circle w0.25: c-7.575,6.45 r0.125
  lines w0.2: -6.45,-6.45 6.45,-6.45 6.45,6.45 -6.45,6.45 -6.45,-6.45
Mechanical 13:
  region: -9.398,9.398 -9.398,8.128 -8.128,9.398
  lines w0.2: -9.398,-9.398 9.398,-9.398 9.398,9.398 -9.398,9.398 -9.398,-9.398
  text ".Designator" at -3.41,-0.99 h2
Mechanical 15:
  lines w0.05: -9.398,-9.398 9.398,-9.398 9.398,9.398 -9.398,9.398 -9.398,-9.398
  lines w0.1: -0.5,0 0.5,0 ; 0,-0.5 0,0.5
3D body: height 1, standoff 0.1, extent -7,-7 7,7

## TQFP-128/140140-0.4 [mm] "TSQFP, 128-Leads, Body 14,00x14,00mm, Pitch 0,40mm, IPC High Density"
height 1
pads (128):
  oval 1.45x0.2 smd: 1(-8,6.2) 2(-8,5.8) 3(-8,5.4) 4(-8,5) 5(-8,4.6) 6(-8,4.2) 7(-8,3.8) 8(-8,3.4) 9(-8,3) 10(-8,2.6) 11(-8,2.2) 12(-8,1.8) 13(-8,1.4) 14(-8,1) 15(-8,0.6) 16(-8,0.2) 17(-8,-0.2) 18(-8,-0.6) 19(-8,-1) 20(-8,-1.4) 21(-8,-1.8) 22(-8,-2.2) 23(-8,-2.6) 24(-8,-3) 25(-8,-3.4) 26(-8,-3.8) 27(-8,-4.2) 28(-8,-4.6) 29(-8,-5) 30(-8,-5.4) 31(-8,-5.8) 32(-8,-6.2) 65(8,-6.2) 66(8,-5.8) 67(8,-5.4) 68(8,-5) 69(8,-4.6) 70(8,-4.2) 71(8,-3.8) 72(8,-3.4) 73(8,-3) 74(8,-2.6) 75(8,-2.2) 76(8,-1.8) 77(8,-1.4) 78(8,-1) 79(8,-0.6) 80(8,-0.2) 81(8,0.2) 82(8,0.6) 83(8,1) 84(8,1.4) 85(8,1.8) 86(8,2.2) 87(8,2.6) 88(8,3) 89(8,3.4) 90(8,3.8) 91(8,4.2) 92(8,4.6) 93(8,5) 94(8,5.4) 95(8,5.8) 96(8,6.2)
  oval 0.2x1.45 smd: 33(-6.2,-8) 34(-5.8,-8) 35(-5.4,-8) 36(-5,-8) 37(-4.6,-8) 38(-4.2,-8) 39(-3.8,-8) 40(-3.4,-8) 41(-3,-8) 42(-2.6,-8) 43(-2.2,-8) 44(-1.8,-8) 45(-1.4,-8) 46(-1,-8) 47(-0.6,-8) 48(-0.2,-8) 49(0.2,-8) 50(0.6,-8) 51(1,-8) 52(1.4,-8) 53(1.8,-8) 54(2.2,-8) 55(2.6,-8) 56(3,-8) 57(3.4,-8) 58(3.8,-8) 59(4.2,-8) 60(4.6,-8) 61(5,-8) 62(5.4,-8) 63(5.8,-8) 64(6.2,-8) 97(6.2,8) 98(5.8,8) 99(5.4,8) 100(5,8) 101(4.6,8) 102(4.2,8) 103(3.8,8) 104(3.4,8) 105(3,8) 106(2.6,8) 107(2.2,8) 108(1.8,8) 109(1.4,8) 110(1,8) 111(0.6,8) 112(0.2,8) 113(-0.2,8) 114(-0.6,8) 115(-1,8) 116(-1.4,8) 117(-1.8,8) 118(-2.2,8) 119(-2.6,8) 120(-3,8) 121(-3.4,8) 122(-3.8,8) 123(-4.2,8) 124(-4.6,8) 125(-5,8) 126(-5.4,8) 127(-5.8,8) 128(-6.2,8)
Top Overlay:
  circle w0.25: c-7.575,6.85 r0.125
  circle w0.6: c-5.45,5.45 r0.3
  lines w0.2: -6.45,-6.45 -6.45,6.45 6.45,6.45 6.45,-6.45 -6.45,-6.45
Mechanical 13:
  region: -9.398,9.398 -9.398,8.128 -8.128,9.398
  lines w0.2: -9.398,-9.398 -9.398,9.398 9.398,9.398 9.398,-9.398 -9.398,-9.398
  text ".Designator" at -3.37,-0.97 h2
Mechanical 15:
  lines w0.05: -9.398,-9.398 -9.398,9.398 9.398,9.398 9.398,-9.398 -9.398,-9.398
  lines w0.1: -0.5,0 0.5,0 ; 0,-0.5 0,0.5
3D body: height 1, standoff 0.1, extent -7,-7 7,7

## TQFP-144/200200-0.5 [mm] "TSQFP, 144-Leads, Body 20,50x20,50mm, Pitch 0,50mm, IPC High Density"
height 1
pads (144):
  oval 1.55x0.25 smd: 1(-11,8.75) 2(-11,8.25) 3(-11,7.75) 4(-11,7.25) 5(-11,6.75) 6(-11,6.25) 7(-11,5.75) 8(-11,5.25) 9(-11,4.75) 10(-11,4.25) 11(-11,3.75) 12(-11,3.25) 13(-11,2.75) 14(-11,2.25) 15(-11,1.75) 16(-11,1.25) 17(-11,0.75) 18(-11,0.25) 19(-11,-0.25) 20(-11,-0.75) 21(-11,-1.25) 22(-11,-1.75) 23(-11,-2.25) 24(-11,-2.75) 25(-11,-3.25) 26(-11,-3.75) 27(-11,-4.25) 28(-11,-4.75) 29(-11,-5.25) 30(-11,-5.75) 31(-11,-6.25) 32(-11,-6.75) 33(-11,-7.25) 34(-11,-7.75) 35(-11,-8.25) 36(-11,-8.75) 73(11,-8.75) 74(11,-8.25) 75(11,-7.75) 76(11,-7.25) 77(11,-6.75) 78(11,-6.25) 79(11,-5.75) 80(11,-5.25) 81(11,-4.75) 82(11,-4.25) 83(11,-3.75) 84(11,-3.25) 85(11,-2.75) 86(11,-2.25) 87(11,-1.75) 88(11,-1.25) 89(11,-0.75) 90(11,-0.25) 91(11,0.25) 92(11,0.75) 93(11,1.25) 94(11,1.75) 95(11,2.25) 96(11,2.75) 97(11,3.25) 98(11,3.75) 99(11,4.25) 100(11,4.75) 101(11,5.25) 102(11,5.75) 103(11,6.25) 104(11,6.75) 105(11,7.25) 106(11,7.75) 107(11,8.25) 108(11,8.75)
  oval 0.25x1.55 smd: 37(-8.75,-11) 38(-8.25,-11) 39(-7.75,-11) 40(-7.25,-11) 41(-6.75,-11) 42(-6.25,-11) 43(-5.75,-11) 44(-5.25,-11) 45(-4.75,-11) 46(-4.25,-11) 47(-3.75,-11) 48(-3.25,-11) 49(-2.75,-11) 50(-2.25,-11) 51(-1.75,-11) 52(-1.25,-11) 53(-0.75,-11) 54(-0.25,-11) 55(0.25,-11) 56(0.75,-11) 57(1.25,-11) 58(1.75,-11) 59(2.25,-11) 60(2.75,-11) 61(3.25,-11) 62(3.75,-11) 63(4.25,-11) 64(4.75,-11) 65(5.25,-11) 66(5.75,-11) 67(6.25,-11) 68(6.75,-11) 69(7.25,-11) 70(7.75,-11) 71(8.25,-11) 72(8.75,-11) 109(8.75,11) 110(8.25,11) 111(7.75,11) 112(7.25,11) 113(6.75,11) 114(6.25,11) 115(5.75,11) 116(5.25,11) 117(4.75,11) 118(4.25,11) 119(3.75,11) 120(3.25,11) 121(2.75,11) 122(2.25,11) 123(1.75,11) 124(1.25,11) 125(0.75,11) 126(0.25,11) 127(-0.25,11) 128(-0.75,11) 129(-1.25,11) 130(-1.75,11) 131(-2.25,11) 132(-2.75,11) 133(-3.25,11) 134(-3.75,11) 135(-4.25,11) 136(-4.75,11) 137(-5.25,11) 138(-5.75,11) 139(-6.25,11) 140(-6.75,11) 141(-7.25,11) 142(-7.75,11) 143(-8.25,11) 144(-8.75,11)
Top Overlay:
  circle w0.6: c-8.35,8.35 r0.3
  circle w0.25: c-10.525,9.425 r0.125
  lines w0.2: -9.35,-9.35 9.35,-9.35 9.35,9.35 -9.35,9.35 -9.35,-9.35
Mechanical 13:
  region: -12.446,12.446 -12.446,11.176 -11.176,12.446
  lines w0.2: -12.446,-12.446 12.446,-12.446 12.446,12.446 -12.446,12.446 -12.446,-12.446
  text ".Designator" at -3.33,-0.9 h2
Mechanical 15:
  lines w0.05: -12.446,-12.446 12.446,-12.446 12.446,12.446 -12.446,12.446 -12.446,-12.446
  lines w0.1: -0.5,0 0.5,0 ; 0,-0.5 0,0.5
3D body: height 1, standoff 0.1, extent -10.25,-10.25 10.25,10.25